# Altium schematic symbol library Fuse_Clip.SchLib: 23 symbols
Pins are listed as number, name and electrical type; pins without a type are passive.

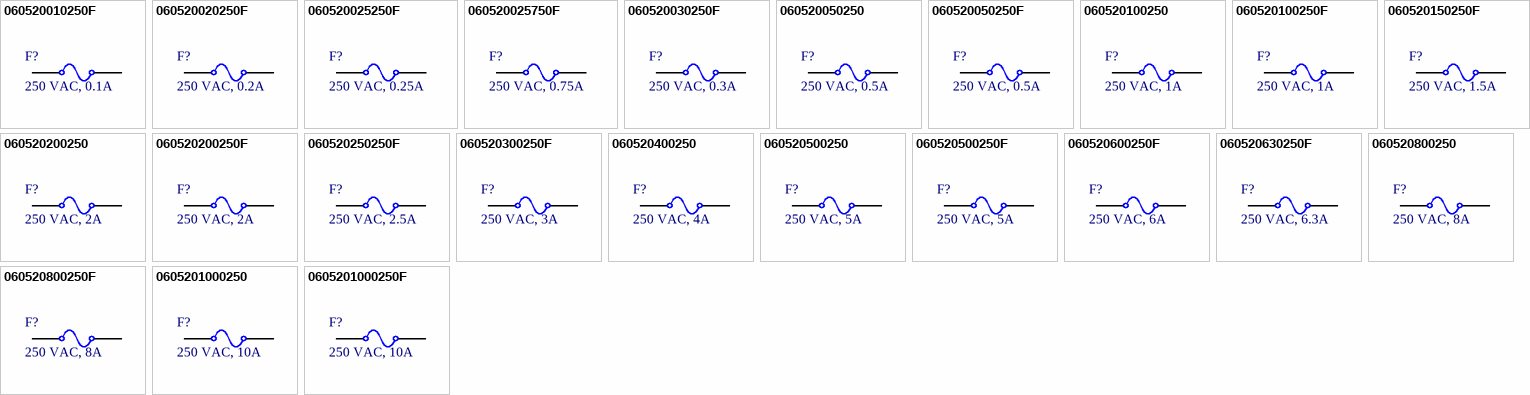
[diagram p0: symbols 060520010250F to 0605201000250F]

## 060520010250F
designator F?, comment 250 VAC, 0.1A
Glass Fuse, Size 0520, 250 VAC, 0.1A, F; Manufacturer: Bel Fuse; Manufacturer Part Number: 5ST100-R; Threshold Voltage: 250VAC; Threshold Current: 35A ( 250VAC); Hold Current: 0.1A; Fuse speed: F; ComponentLink1Description: Datasheet; ComponentLink1URL: https://www.belfuse.com/resources/datasheets/circuitprotection/ds-cp-5st-5stp-series.pdf; Supplier 1 URL: https://www.mouser.vn/ProductDetail/Bel-Fuse/5ST-100-R?qs=MvPYbBWWJysvyCTUIgtvFw%3D%3D; Supplier 2 URL: https://www.digikey.com/en/products/detail/bel-fuse-inc/5ST-100-R/1009010; Supplier 3 URL: https://www.thegioiic.com/cau-chi-ong-thuy-tinh-0-1a-5x20mm-toc-do-f; Value: 250 VAC, 0.1A; Operating Temperature Max: + 85 C; Operating Temperature Min: - 40 C; Package / Case: 0520; Packaging: Tape and Reel; Supplier 1: Mouser; Supplier 1 Part Number: 530-5ST100-R; Supplier 2: Digi-Key; Supplier 2 Part Number: 507-1238-ND; Supplier 3: thegioiic; Supplier 3 Part Number: N/A; Mount: Holder / Clip; LCSC Part #: N/A
footprint Fuse_Clip_0520 (Clip Fuse, Size 0520)
pins: 0, 1

## 060520020250F
designator F?, comment 250 VAC, 0.2A
Glass Fuse, Size 0520, 250 VAC, 0.2A, F; Manufacturer: Littelfuse; Manufacturer Part Number: 0217.200MXP; Threshold Voltage: 250VAC; Threshold Current: 35A ( 250VAC); Hold Current: 0.2A; Fuse speed: F; ComponentLink1Description: Datasheet; ComponentLink1URL: https://www.littelfuse.com/~/media/electronics/datasheets/fuses/littelfuse_fuse_217_datasheet.pdf.pdf; Supplier 1 URL: https://www.mouser.vn/ProductDetail/Littelfuse/0217.200MXP?qs=LpXnx4WbYtByvcMiHPFRdQ%3D%3D; Supplier 2 URL: https://www.digikey.com/en/products/detail/bel-fuse-inc/5MF-1-5-R/1009035; Supplier 3 URL: https://www.thegioiic.com/cau-chi-ong-thuy-tinh-0-2a-5x20mm-toc-do-f; Value: 250 VAC, 0.2A; Operating Temperature Max: + 85 C; Operating Temperature Min: - 40 C; Package / Case: 0520; Packaging: Tape and Reel; Supplier 1: Mouser; Supplier 1 Part Number: 576-0217.200MXP; Supplier 2: Digi-Key; Supplier 2 Part Number: 507-1263-ND; Supplier 3: thegioiic; Supplier 3 Part Number: N/A; Mount: Holder / Clip; LCSC Part #: N/A
footprint Fuse_Clip_0520 (Clip Fuse, Size 0520)
pins: 0, 1

## 060520025250F
designator F?, comment 250 VAC, 0.25A
Glass Fuse, Size 0520, 250 VAC, 0.25A, F; Manufacturer: Littelfuse; Manufacturer Part Number: 0217.250MXP; Threshold Voltage: 250VAC; Threshold Current: 35A ( 250VAC); Hold Current: 0.25A; Fuse speed: F; ComponentLink1Description: Datasheet; ComponentLink1URL: https://www.littelfuse.com/~/media/electronics/datasheets/fuses/littelfuse_fuse_217_datasheet.pdf.pdf; Supplier 1 URL: https://www.mouser.vn/ProductDetail/Littelfuse/0217.250MXP?qs=KOeOmFnJLTo%252BGMWHwtjXYA%3D%3D; Supplier 2 URL: https://www.digikey.com/en/products/detail/littelfuse-inc/0217-250MXP/777531?s=N4IgTCBcDaIAxgIwHYB0YCscCyANACiALoC%2BQA; Supplier 3 URL: https://www.thegioiic.com/cau-chi-ong-thuy-tinh-0-25a-5x20mm-toc-do-f; Value: 250 VAC, 0.25A; Operating Temperature Max: + 85 C; Operating Temperature Min: - 40 C; Package / Case: 0520; Packaging: Tape and Reel; Supplier 1: Mouser; Supplier 1 Part Number: 576-0217.250MXP; Supplier 2: Digi-Key; Supplier 2 Part Number: F1718-ND; Supplier 3: thegioiic; Supplier 3 Part Number: N/A; Mount: Holder / Clip; LCSC Part #: N/A
footprint Fuse_Clip_0520 (Clip Fuse, Size 0520)
pins: 0, 1

## 060520025750F
designator F?, comment 250 VAC, 0.75A
Glass Fuse, Size 0520, 250 VAC, 0.75A, F; Manufacturer: Bussmann / Eaton; Manufacturer Part Number: BK/GMA-750-R; Threshold Voltage: 250VAC; Threshold Current: 35A; Hold Current: 0.75A; Fuse speed: F; ComponentLink1Description: Datasheet; ComponentLink1URL: https://www.eaton.com/content/dam/eaton/products/electronic-components/resources/data-sheet/eaton-gma-time-delay-glass-tube-fuses-data-sheet.pdf; Supplier 1 URL: https://www.mouser.vn/ProductDetail/Bussmann-Eaton/BK-GMA-750-R?qs=St27ATL478tI49%252BCTEEZkw%3D%3D; Supplier 2 URL: https://www.digikey.com/en/products/detail/eaton-electronics-division/BK-GMA-750-R/1023987?s=N4IgTCBcDaIAQCEDSB6A4gWQIIFoDsArAAw4BKIAugL5A; Supplier 3 URL: https://www.thegioiic.com/cau-chi-ong-thuy-tinh-0-75a-5x20mm-toc-do-f; Value: 250 VAC, 0.75A; Operating Temperature Max: + 85 C; Operating Temperature Min: - 40 C; Package / Case: 0520; Packaging: Tape and Reel; Supplier 1: Mouser; Supplier 1 Part Number: 504-BK/GMA-750-R; Supplier 2: Digi-Key; Supplier 2 Part Number: 283-2869-ND; Supplier 3: thegioiic; Supplier 3 Part Number: N/A; Mount: Holder / Clip; LCSC Part #: N/A
footprint Fuse_Clip_0520 (Clip Fuse, Size 0520)
pins: 0, 1

## 060520030250F
designator F?, comment 250 VAC, 0.3A
Glass Fuse, Size 0520, 250 VAC, 0.3A, F; Manufacturer: Littelfuse; Manufacturer Part Number: 0235.300MXP; Threshold Voltage: 250VAC; Threshold Current: 10kA ( 125VAC); Hold Current: 0.3A; Fuse speed: F; ComponentLink1Description: Datasheet; ComponentLink1URL: https://www.littelfuse.com/~/media/electronics/datasheets/fuses/littelfuse_fuse_217_datasheet.pdf.pdf; Supplier 1 URL: https://www.mouser.vn/ProductDetail/Littelfuse/0235.300MXP?qs=qI%252BDxnNls1%2FlgYUhjxKUBg%3D%3D; Supplier 2 URL: https://www.digikey.com/en/products/detail/littelfuse-inc/0235-300MXP/778120?s=N4IgTCBcDaIAxgMwFYB0i5wLIA0AKIAugL5A; Supplier 3 URL: https://www.thegioiic.com/cau-chi-ong-thuy-tinh-0-3a-5x20mm-toc-do-f; Value: 250 VAC, 0.3A; Operating Temperature Max: + 85 C; Operating Temperature Min: - 40 C; Package / Case: 0520; Packaging: Tape and Reel; Supplier 1: Mouser; Supplier 1 Part Number: 576-0235.300MXP; Supplier 2: Digi-Key; Supplier 2 Part Number: F4717-ND; Supplier 3: thegioiic; Supplier 3 Part Number: N/A; Mount: Holder / Clip; LCSC Part #: N/A
footprint Fuse_Clip_0520 (Clip Fuse, Size 0520)
pins: 0, 1

## 060520050250
designator F?, comment 250 VAC, 0.5A
Ceramic Fuse, Size 0520, 250 VAC, 0.5A; Manufacturer: Littelfuse; Manufacturer Part Number: 0215.500MXP; Threshold Voltage: 250VAC; Threshold Current: 1,5kA (250VAC); Fuse speed: N; Hold Current: 0.5A; ComponentLink1Description: Datasheet; ComponentLink1URL: https://www.littelfuse.com/~/media/electronics/datasheets/fuses/littelfuse_fuse_217_datasheet.pdf.pdf; Supplier 1 URL: https://www.mouser.vn/ProductDetail/Littelfuse/0215.500MXP?qs=qI%252BDxnNls1%2Fdlp%2FQaMILDA%3D%3D; Supplier 2 URL: https://www.digikey.com/en/products/detail/littelfuse-inc/0215-500MXP/777422?s=N4IgTCBcDaIAxgIwFYB0y5wLIA0AKIAugL5A; Supplier 3 URL: https://www.thegioiic.com/cau-chi-su-0-5a-5x20mm; Value: 250 VAC, 0.5A; Operating Temperature Max: + 85 C; Operating Temperature Min: - 40 C; Package / Case: 0520; Packaging: Tape and Reel; Supplier 1: Mouser; Supplier 1 Part Number: 576-0215.500MXP; Supplier 2: Digi-Key; Supplier 2 Part Number: F3597-ND; Supplier 3: thegioiic; Supplier 3 Part Number: N/A; Mount: Holder / Clip; LCSC Part #: N/A
footprint Fuse_Clip_0520 (Clip Fuse, Size 0520)
pins: 0, 1

## 060520050250F
designator F?, comment 250 VAC, 0.5A
Glass Fuse, Size 0520, 250 VAC, 0.5A, F; Manufacturer: Littelfuse; Manufacturer Part Number: 0217.500HXP; Threshold Voltage: 250VAC; Threshold Current: 35A (250VAC); Hold Current: 0.5A; Fuse speed: F; ComponentLink1Description: Datasheet; ComponentLink1URL: https://www.littelfuse.com/~/media/electronics/datasheets/fuses/littelfuse_fuse_217_datasheet.pdf.pdf; Supplier 1 URL: https://www.mouser.vn/ProductDetail/Littelfuse/0217.500HXP?qs=LpXnx4WbYtBiNp2qBalYRA%3D%3D; Supplier 2 URL: https://www.digikey.com/en/products/detail/littelfuse-inc/0217-500HXP/777105?s=N4IgTCBcDaIAxgIwHYB0BWOcASANACiALoC%2BQA; Supplier 3 URL: https://www.thegioiic.com/cau-chi-ong-thuy-tinh-0-5a-5x20mm-toc-do-f; Value: 250 VAC, 0.5A; Operating Temperature Max: + 85 C; Operating Temperature Min: - 40 C; Package / Case: 0520; Packaging: Tape and Reel; Supplier 1: Mouser; Supplier 1 Part Number: 576-0217.500HXP; Supplier 2: Digi-Key; Supplier 2 Part Number: F2389-ND; Supplier 3: thegioiic; Supplier 3 Part Number: N/A; Mount: Holder / Clip; LCSC Part #: N/A
footprint Fuse_Clip_0520 (Clip Fuse, Size 0520)
pins: 0, 1

## 060520100250
designator F?, comment 250 VAC, 1A
Ceramic Fuse, Size 0520, 250 VAC, 1A; Manufacturer: Littelfuse; Manufacturer Part Number: 0215001.MXP; Threshold Voltage: 250VAC; Threshold Current: 1.5kA (250VAC); Fuse speed: N; Hold Current: 1A; ComponentLink1Description: Datasheet; ComponentLink1URL: https://www.littelfuse.com/~/media/electronics/datasheets/fuses/littelfuse_fuse_234_datasheet.pdf.pdf; Supplier 1 URL: https://www.mouser.vn/ProductDetail/Littelfuse/0215001.MXP?qs=ar9f0rk5DXA%2FCWd1HPfSGA%3D%3D; Supplier 2 URL: https://www.digikey.com/en/products/detail/littelfuse-inc/0215001-MXP/777431?s=N4IgTCBcDaIAxgIwFY50QOgLIA0AKIAugL5A; Supplier 3 URL: https://www.thegioiic.com/cau-chi-su-1a-5x20mm; Value: 250 VAC, 1A; Operating Temperature Max: + 85 C; Operating Temperature Min: - 40 C; Package / Case: 0520; Packaging: Tape and Reel; Supplier 1: Mouser; Supplier 1 Part Number: 576-0215001.MXP; Supplier 2: Digi-Key; Supplier 2 Part Number: F1696-ND; Supplier 3: thegioiic; Supplier 3 Part Number: N/A; Mount: Holder / Clip; LCSC Part #: N/A
footprint Fuse_Clip_0520 (Clip Fuse, Size 0520)
pins: 0, 1

## 060520100250F
designator F?, comment 250 VAC, 1A
Glass Fuse, Size 0520, 250 VAC, 1A, F; Manufacturer: Littelfuse; Manufacturer Part Number: 0217001.MXP; Threshold Voltage: 250VAC; Threshold Current: 35A (250VAC); Hold Current: 1A; Fuse speed: F; ComponentLink1Description: Datasheet; ComponentLink1URL: https://www.littelfuse.com/~/media/electronics/datasheets/fuses/littelfuse_fuse_234_datasheet.pdf.pdf; Supplier 1 URL: https://www.mouser.vn/ProductDetail/Littelfuse/0217001.MXP?qs=8QfiMw8FY5O6uJ5P97zz7g%3D%3D; Supplier 2 URL: https://www.digikey.com/en/products/detail/littelfuse-inc/0217001-MXP/777543?s=N4IgTCBcDaIAQAYwEYDsCHIHQFkAaACiALoC%2BQA; Supplier 3 URL: https://www.thegioiic.com/cau-chi-ong-thuy-tinh-1a-5x20mm-toc-do-f; Value: 250 VAC, 1A; Operating Temperature Max: + 85 C; Operating Temperature Min: - 40 C; Package / Case: 0520; Packaging: Tape and Reel; Supplier 1: Mouser; Supplier 1 Part Number: 576-0217001.MXP; Supplier 2: Digi-Key; Supplier 2 Part Number: F5929-ND; Supplier 3: thegioiic; Supplier 3 Part Number: N/A; Mount: Holder / Clip; LCSC Part #: N/A
footprint Fuse_Clip_0520 (Clip Fuse, Size 0520)
pins: 0, 1

## 060520150250F
designator F?, comment 250 VAC, 1.5A
Glass Fuse, Size 0520, 250 VAC, 1.5A, F; Manufacturer: Bel Fuse; Manufacturer Part Number: 0235.300MXP; Threshold Voltage: 250VAC; Threshold Current: 10kA ( 125VAC); Hold Current: 1.5A; Fuse speed: F; ComponentLink1Description: Datasheet; ComponentLink1URL: https://www.belfuse.com/resources/datasheets/circuitprotection/ds-cp-5mf-5mfp-series.pdf; Supplier 1 URL: https://www.mouser.vn/ProductDetail/Bel-Fuse/5MF-1.5-R?qs=MvPYbBWWJytyVTk9PnzKGA%3D%3D; Supplier 2 URL: https://www.digikey.com/en/products/detail/bel-fuse-inc/5MF-1-5-R/1009035; Supplier 3 URL: https://www.thegioiic.com/cau-chi-ong-thuy-tinh-1-5a-5x20mm-toc-do-f; Value: 250 VAC, 1.5A; Operating Temperature Max: + 85 C; Operating Temperature Min: - 40 C; Package / Case: 0520; Packaging: Tape and Reel; Supplier 1: Mouser; Supplier 1 Part Number: 576-0235.300MXP; Supplier 2: Digi-Key; Supplier 2 Part Number: F4717-ND; Supplier 3: thegioiic; Supplier 3 Part Number: N/A; Mount: Holder / Clip; LCSC Part #: N/A
footprint Fuse_Clip_0520 (Clip Fuse, Size 0520)
pins: 0, 1

## 060520200250
designator F?, comment 250 VAC, 2A
Ceramic Fuse, Size 0520, 250 VAC, 2A; Manufacturer: Littelfuse; Manufacturer Part Number: 0215002.HXP; Threshold Voltage: 250VAC; Threshold Current: 1.5kA (250VAC); Fuse speed: N; Hold Current: 2A; ComponentLink1Description: Datasheet; ComponentLink1URL: https://www.littelfuse.com/~/media/electronics/datasheets/fuses/littelfuse_fuse_234_datasheet.pdf.pdf; Supplier 1 URL: https://www.mouser.vn/ProductDetail/Littelfuse/0215002.HXP?qs=KOeOmFnJLTqrn80%2F88U61A%3D%3D; Supplier 2 URL: https://www.digikey.com/en/products/detail/littelfuse-inc/0215002-HXP/777432?s=N4IgTCBcDaIAxgIwFY4IHQAkAaAFEAugL5A; Supplier 3 URL: https://www.thegioiic.com/cau-chi-su-2a-5x20mm; Value: 250 VAC, 2A; Operating Temperature Max: + 85 C; Operating Temperature Min: - 40 C; Package / Case: 0520; Packaging: Tape and Reel; Supplier 1: Mouser; Supplier 1 Part Number: 576-0215002.HXP; Supplier 2: Digi-Key; Supplier 2 Part Number: F2662-ND; Supplier 3: thegioiic; Supplier 3 Part Number: N/A; Mount: Holder / Clip; LCSC Part #: N/A
footprint Fuse_Clip_0520 (Clip Fuse, Size 0520)
pins: 0, 1

## 060520200250F
designator F?, comment 250 VAC, 2A
Glass Fuse, Size 0520, 250 VAC, 2A, F; Manufacturer: Littelfuse; Manufacturer Part Number: 0217002.MXP; Threshold Voltage: 250VAC; Threshold Current: 35A (250VAC); Hold Current: 2A; Fuse speed: F; ComponentLink1Description: Datasheet; ComponentLink1URL: https://www.littelfuse.com/~/media/electronics/datasheets/fuses/littelfuse_fuse_234_datasheet.pdf.pdf; Supplier 1 URL: https://www.mouser.vn/ProductDetail/Littelfuse/0217002.MXP?qs=YKoktUZms5IWTPy42qy8YA%3D%3D; Supplier 2 URL: https://www.digikey.com/en/products/detail/littelfuse-inc/0217002-MXP/777545?s=N4IgTCBcDaIAQAYwEYDsCkDoCyANACiALoC%2BQA; Supplier 3 URL: https://www.thegioiic.com/cau-chi-ong-thuy-tinh-2a-5x20mm-toc-do-f; Value: 250 VAC, 2A; Operating Temperature Max: + 85 C; Operating Temperature Min: - 40 C; Package / Case: 0520; Packaging: Tape and Reel; Supplier 1: Mouser; Supplier 1 Part Number: 576-0217002.MXP; Supplier 2: Digi-Key; Supplier 2 Part Number: F1723-ND; Supplier 3: thegioiic; Supplier 3 Part Number: N/A; Mount: Holder / Clip; LCSC Part #: N/A
footprint Fuse_Clip_0520 (Clip Fuse, Size 0520)
pins: 0, 1

## 060520250250F
designator F?, comment 250 VAC, 2.5A
Glass Fuse, Size 0520, 250 VAC, 2.5A, F; Manufacturer: Littelfuse; Manufacturer Part Number: 021702.5TXP; Threshold Voltage: 250VAC; Threshold Current: 35A (250VAC); Hold Current: 2.5A; Fuse speed: F; ComponentLink1Description: Datasheet; ComponentLink1URL: https://www.littelfuse.com/~/media/electronics/datasheets/fuses/littelfuse_fuse_234_datasheet.pdf.pdf; Supplier 1 URL: https://www.mouser.vn/ProductDetail/Littelfuse/021702.5TXP?qs=Co4VkB5J4%2FtlATVasM8PdQ%3D%3D; Supplier 2 URL: https://www.digikey.com/en/products/detail/littelfuse-inc/021702-5TXP/3305622?s=N4IgTCBcDaIAxgIwHYEDoCsAVAGgBRAF0BfIA; Supplier 3 URL: https://www.thegioiic.com/cau-chi-ong-thuy-tinh-2-5a-5x20mm-toc-do-f; Value: 250 VAC, 2.5A; Operating Temperature Max: + 85 C; Operating Temperature Min: - 40 C; Package / Case: 0520; Packaging: Tape and Reel; Supplier 1: Mouser; Supplier 1 Part Number: 576-021702.5TXP; Supplier 2: Digi-Key; Supplier 2 Part Number: F4260-ND; Supplier 3: thegioiic; Supplier 3 Part Number: N/A; Mount: Holder / Clip; LCSC Part #: N/A
footprint Fuse_Clip_0520 (Clip Fuse, Size 0520)
pins: 0, 1

## 060520300250F
designator F?, comment 250 VAC, 3A
Glass Fuse, Size 0520, 250 VAC, 3A, F; Manufacturer: Littelfuse; Manufacturer Part Number: 0235003.HXP; Threshold Voltage: 250VAC; Threshold Current: 10kA (125VAC); Hold Current: 3A; Fuse speed: F; ComponentLink1Description: Datasheet; ComponentLink1URL: https://www.littelfuse.com/~/media/electronics/datasheets/fuses/littelfuse_fuse_234_datasheet.pdf.pdf; Supplier 1 URL: https://www.mouser.vn/ProductDetail/Littelfuse/0235003.HXP?qs=WtG364jHAdx3buZ4LbEsmg%3D%3D; Supplier 2 URL: https://www.digikey.com/en/products/detail/littelfuse-inc/0235003-HXP/778150?s=N4IgTCBcDaIAxgMwFY50QOgBIA0AKIAugL5A; Supplier 3 URL: https://www.thegioiic.com/cau-chi-ong-thuy-tinh-3a-5x20mm-toc-do-f; Value: 250 VAC, 3A; Operating Temperature Max: + 85 C; Operating Temperature Min: - 40 C; Package / Case: 0520; Packaging: Tape and Reel; Supplier 1: Mouser; Supplier 1 Part Number: 576-0235003.HXP; Supplier 2: Digi-Key; Supplier 2 Part Number: F2682-ND; Supplier 3: thegioiic; Supplier 3 Part Number: N/A; Mount: Holder / Clip; LCSC Part #: N/A
footprint Fuse_Clip_0520 (Clip Fuse, Size 0520)
pins: 0, 1

## 060520400250
designator F?, comment 250 VAC, 4A
Ceramic Fuse, Size 0520, 250 VAC, 4A; Manufacturer: Littelfuse; Manufacturer Part Number: 0215004.MXP; Threshold Voltage: 250VAC; Threshold Current: 1.5 kA (250VAC); Fuse speed: N; Hold Current: 4A; ComponentLink1Description: Datasheet; ComponentLink1URL: https://www.littelfuse.com/media?resourcetype=datasheets&itemid=a0d11841-302e-49a3-9086-a6d43e30edf0&filename=littelfuse-fuse-215-datasheet; Supplier 1 URL: https://www.mouser.vn/ProductDetail/Littelfuse/0215004.MXP?qs=bpnLQM2ZShyhLPqerLPL3g%3D%3D; Supplier 2 URL: https://www.digikey.com/en/products/detail/littelfuse-inc/0215004-MXP/777437?s=N4IgTCBcDaIAxgIwFY5wCwDoCyANACiALoC%2BQA; Supplier 3 URL: https://www.thegioiic.com/cau-chi-su-4a-5x20mm; Value: 250 VAC, 4A; Operating Temperature Max: + 85 C; Operating Temperature Min: - 40 C; Package / Case: 0520; Packaging: Tape and Reel; Supplier 1: Mouser; Supplier 1 Part Number: 576-0215004.MXP; Supplier 2: Digi-Key; Supplier 2 Part Number: F1697-ND; Supplier 3: thegioiic; Supplier 3 Part Number: N/A; Mount: Holder / Clip; LCSC Part #: N/A
footprint Fuse_Clip_0520 (Clip Fuse, Size 0520)
pins: 0, 1

## 060520500250
designator F?, comment 250 VAC, 5A
Ceramic Fuse, Size 0520, 250 VAC, 5A; Manufacturer: Littelfuse; Manufacturer Part Number: 0215005.HXP; Threshold Voltage: 250VAC; Threshold Current: 1.5kA (250VAC); Fuse speed: N; Hold Current: 5A; ComponentLink1Description: Datasheet; ComponentLink1URL: https://www.littelfuse.com/~/media/electronics/datasheets/fuses/littelfuse_fuse_234_datasheet.pdf.pdf; Supplier 1 URL: https://www.mouser.vn/ProductDetail/Littelfuse/0215005.HXP?qs=rkYlxpo0zrFldKFCO%252BlKVQ%3D%3D; Supplier 2 URL: https://www.digikey.com/en/products/detail/littelfuse-inc/0215005-HXP/777438?s=N4IgTCBcDaIAxgIwFY52QOgBIA0AKIAugL5A; Supplier 3 URL: https://www.thegioiic.com/cau-chi-su-5a-5x20mm; Value: 250 VAC, 5A; Operating Temperature Max: + 85 C; Operating Temperature Min: - 40 C; Package / Case: 0520; Packaging: Tape and Reel; Supplier 1: Mouser; Supplier 1 Part Number: 576-0215005.HXP; Supplier 2: Digi-Key; Supplier 2 Part Number: F2666-ND; Supplier 3: thegioiic; Supplier 3 Part Number: N/A; Mount: Holder / Clip; LCSC Part #: N/A
footprint Fuse_Clip_0520 (Clip Fuse, Size 0520)
pins: 0, 1

## 060520500250F
designator F?, comment 250 VAC, 5A
Glass Fuse, Size 0520, 250 VAC, 5A, F; Manufacturer: Littelfuse; Manufacturer Part Number: 0217005.MXP; Threshold Voltage: 250VAC; Threshold Current: 50A (125VAC); Hold Current: 5A; Fuse speed: F; ComponentLink1Description: Datasheet; ComponentLink1URL: https://www.littelfuse.com/~/media/electronics/datasheets/fuses/littelfuse_fuse_234_datasheet.pdf.pdf; Supplier 1 URL: https://www.mouser.vn/ProductDetail/Littelfuse/0217005.MXP?qs=8QfiMw8FY5N%2FZH431hpxSA%3D%3D; Supplier 2 URL: https://www.digikey.com/en/products/detail/littelfuse-inc/0217005-MXP/777549?s=N4IgTCBcDaIAQAYwEYDsCEFYB0BZAGgAogC6AvkA; Supplier 3 URL: https://www.thegioiic.com/cau-chi-ong-thuy-tinh-5a-5x20mm-toc-do-f; Value: 250 VAC, 5A; Operating Temperature Max: + 85 C; Operating Temperature Min: - 40 C; Package / Case: 0520; Packaging: Tape and Reel; Supplier 1: Mouser; Supplier 1 Part Number: 576-0217005.MXP; Supplier 2: Digi-Key; Supplier 2 Part Number: F1725-ND; Supplier 3: thegioiic; Supplier 3 Part Number: N/A; Mount: Holder / Clip; LCSC Part #: N/A
footprint Fuse_Clip_0520 (Clip Fuse, Size 0520)
pins: 0, 1

## 060520600250F
designator F?, comment 250 VAC, 6A
Glass Fuse, Size 0520, 250 VAC, 6A, F; Manufacturer: Littelfuse; Manufacturer Part Number: 0234006.MXP; Threshold Voltage: 250VAC; Threshold Current: 10kA (125VAC); Hold Current: 6A; Fuse speed: F; ComponentLink1Description: Datasheet; ComponentLink1URL: https://www.littelfuse.com/~/media/electronics/datasheets/fuses/littelfuse_fuse_234_datasheet.pdf.pdf; Supplier 1 URL: https://www.mouser.vn/ProductDetail/Littelfuse/0234006.MXP?qs=YKoktUZms5InNPE1Qna0Cg%3D%3D; Supplier 2 URL: https://www.digikey.com/en/products/detail/littelfuse-inc/0234006-MXP/778084; Supplier 3 URL: https://www.thegioiic.com/cau-chi-ong-thuy-tinh-6a-5x20mm-toc-do-f; Value: 250 VAC, 6A; Operating Temperature Max: + 85 C; Operating Temperature Min: - 40 C; Package / Case: 0520; Packaging: Tape and Reel; Supplier 1: Mouser; Supplier 1 Part Number: 576-0234006.MXP; Supplier 2: Digi-Key; Supplier 2 Part Number: F2694-ND; Supplier 3: thegioiic; Supplier 3 Part Number: N/A; Mount: Holder / Clip; LCSC Part #: N/A
footprint Fuse_Clip_0520 (Clip Fuse, Size 0520)
pins: 0, 1

## 060520630250F
designator F?, comment 250 VAC, 6.3A
Glass Fuse, Size 0520, 250 VAC, 6.3A, F; Manufacturer: Littelfuse; Manufacturer Part Number: 021706.3VXP; Threshold Voltage: 250VAC; Threshold Current: 63A (250VAC); Hold Current: 6.3A; Fuse speed: F; ComponentLink1Description: Datasheet; ComponentLink1URL: https://www.littelfuse.com/~/media/electronics/datasheets/fuses/littelfuse_fuse_234_datasheet.pdf.pdf; Supplier 1 URL: https://www.mouser.vn/ProductDetail/Littelfuse/021706.3VXP?qs=Vv6sT79n3zQZ1wGK5TThFg%3D%3D; Supplier 2 URL: https://www.digikey.com/en/products/detail/littelfuse-inc/021706-3VXP/3424969?s=N4IgTCBcDaIAxgIwHY4DYB0BmAagDQAUQBdAXyA; Supplier 3 URL: https://www.thegioiic.com/cau-chi-ong-thuy-tinh-6-3a-5x20mm-toc-do-f; Value: 250 VAC, 6.3A; Operating Temperature Max: + 85 C; Operating Temperature Min: - 40 C; Package / Case: 0520; Packaging: Tape and Reel; Supplier 1: Mouser; Supplier 1 Part Number: 576-021706.3VXP; Supplier 2: Digi-Key; Supplier 2 Part Number: F11027-ND; Supplier 3: thegioiic; Supplier 3 Part Number: N/A; Mount: Holder / Clip; LCSC Part #: N/A
footprint Fuse_Clip_0520 (Clip Fuse, Size 0520)
pins: 0, 1

## 060520800250
designator F?, comment 250 VAC, 8A
Ceramic Fuse, Size 0520, 250 VAC, 8A; Manufacturer: Littelfuse; Manufacturer Part Number: 0215008.MXP; Threshold Voltage: 250VAC; Threshold Current: 1.5kA (250VAC); Fuse speed: N; Hold Current: 8A; ComponentLink1Description: Datasheet; ComponentLink1URL: https://www.littelfuse.com/~/media/electronics/datasheets/fuses/littelfuse_fuse_234_datasheet.pdf.pdf; Supplier 1 URL: https://www.mouser.vn/ProductDetail/Littelfuse/0215008.MXP?qs=qI%252BDxnNls18xZY24y8bA3A%3D%3D; Supplier 2 URL: https://www.digikey.com/en/products/detail/littelfuse-inc/0215008-MXP/777443?s=N4IgTCBcDaIAQAYwEYCsCEA4B0BZAGgAogC6AvkA; Supplier 3 URL: https://www.thegioiic.com/cau-chi-su-8a-5x20mm; Value: 250 VAC, 8A; Operating Temperature Max: + 85 C; Operating Temperature Min: - 40 C; Package / Case: 0520; Packaging: Tape and Reel; Supplier 1: Mouser; Supplier 1 Part Number: 576-0215008.MXP; Supplier 2: Digi-Key; Supplier 2 Part Number: F4613-ND; Supplier 3: thegioiic; Supplier 3 Part Number: N/A; Mount: Holder / Clip; LCSC Part #: N/A
footprint Fuse_Clip_0520 (Clip Fuse, Size 0520)
pins: 0, 1

## 060520800250F
designator F?, comment 250 VAC, 8A
Glass Fuse, Size 0520, 250 VAC, 8A, F; Manufacturer: Littelfuse; Manufacturer Part Number: 0217008.MXP; Threshold Voltage: 250VAC; Threshold Current: 80A (125VAC); Hold Current: 8A; Fuse speed: F; ComponentLink1Description: Datasheet; ComponentLink1URL: https://www.littelfuse.com/~/media/electronics/datasheets/fuses/littelfuse_fuse_234_datasheet.pdf.pdf; Supplier 1 URL: https://www.mouser.vn/ProductDetail/Littelfuse/0217008.MXP?qs=8QfiMw8FY5N6Hjj4UqrSQw%3D%3D; Supplier 2 URL: https://www.digikey.com/en/products/detail/littelfuse-inc/0217008-MXP/777551?s=N4IgTCBcDaIAxgIwHY5wBwDoCyANACiALoC%2BQA; Supplier 3 URL: https://www.thegioiic.com/cau-chi-ong-thuy-tinh-8a-5x20mm-toc-do-f; Value: 250 VAC, 8A; Operating Temperature Max: + 85 C; Operating Temperature Min: - 40 C; Package / Case: 0520; Packaging: Tape and Reel; Supplier 1: Mouser; Supplier 1 Part Number: 576-0217008.MXP; Supplier 2: Digi-Key; Supplier 2 Part Number: F4635-ND; Supplier 3: thegioiic; Supplier 3 Part Number: N/A; Mount: Holder / Clip; LCSC Part #: N/A
footprint Fuse_Clip_0520 (Clip Fuse, Size 0520)
pins: 0, 1

## 0605201000250
designator F?, comment 250 VAC, 10A
Ceramic Fuse, Size 0520, 250 VAC, 10A; Manufacturer: Littelfuse; Manufacturer Part Number: 0215010.MXP; Threshold Voltage: 250VAC; Threshold Current: 1.5kA (250VAC); Fuse speed: N; Hold Current: 10A; ComponentLink1Description: Datasheet; ComponentLink1URL: https://www.littelfuse.com/~/media/electronics/datasheets/fuses/littelfuse_fuse_234_datasheet.pdf.pdf; Supplier 1 URL: https://www.mouser.vn/ProductDetail/Littelfuse/0215010.MXP?qs=qI%252BDxnNls1%252BmXG81o%252BQ0mA%3D%3D; Supplier 2 URL: https://www.digikey.com/en/products/detail/littelfuse-inc/0215010-MXP/777449; Supplier 3 URL: https://www.thegioiic.com/cau-chi-su-10a-5x20mm; Value: 250 VAC, 10A; Operating Temperature Max: + 85 C; Operating Temperature Min: - 40 C; Package / Case: 0520; Packaging: Tape and Reel; Supplier 1: Mouser; Supplier 1 Part Number: 576-0215010.MXP; Supplier 2: Digi-Key; Supplier 2 Part Number: F1699-ND; Supplier 3: thegioiic; Supplier 3 Part Number: N/A; Mount: Holder / Clip; LCSC Part #: N/A
footprint Fuse_Clip_0520 (Clip Fuse, Size 0520)
pins: 0, 1

## 0605201000250F
designator F?, comment 250 VAC, 10A
Glass Fuse, Size 0520, 250 VAC, 10A, F; Manufacturer: Littelfuse; Manufacturer Part Number: 0218010.HXP; Threshold Voltage: 250VAC; Threshold Current: 100A (125VAC); Hold Current: 10A; Fuse speed: F; ComponentLink1Description: Datasheet; ComponentLink1URL: https://www.littelfuse.com/~/media/electronics/datasheets/fuses/littelfuse_fuse_234_datasheet.pdf.pdf; Supplier 1 URL: https://www.mouser.vn/ProductDetail/Littelfuse/0218010.HXP?qs=YKoktUZms5K5aEWQkceb8A%3D%3D; Supplier 2 URL: https://www.digikey.com/en/products/detail/littelfuse-inc/0218010-HXP/777141?s=N4IgTCBcDaIAxgIwA46LgOgBIA0AKIAugL5A; Supplier 3 URL: https://www.thegioiic.com/cau-chi-ong-thuy-tinh-10a-5x20mm-toc-do-f; Value: 250 VAC, 10A; Operating Temperature Max: + 85 C; Operating Temperature Min: - 40 C; Package / Case: 0520; Packaging: Tape and Reel; Supplier 1: Mouser; Supplier 1 Part Number: 576-0218010.HXP; Supplier 2: Digi-Key; Supplier 2 Part Number: F2425-ND; Supplier 3: thegioiic; Supplier 3 Part Number: N/A; Mount: Holder / Clip; LCSC Part #: N/A
footprint Fuse_Clip_0520 (Clip Fuse, Size 0520)
pins: 0, 1